# Altium integrated library Linear Technology Power Management Switching Regulator LT1074-LT8705.IntLib: 2252 symbols (part 76 of 148)
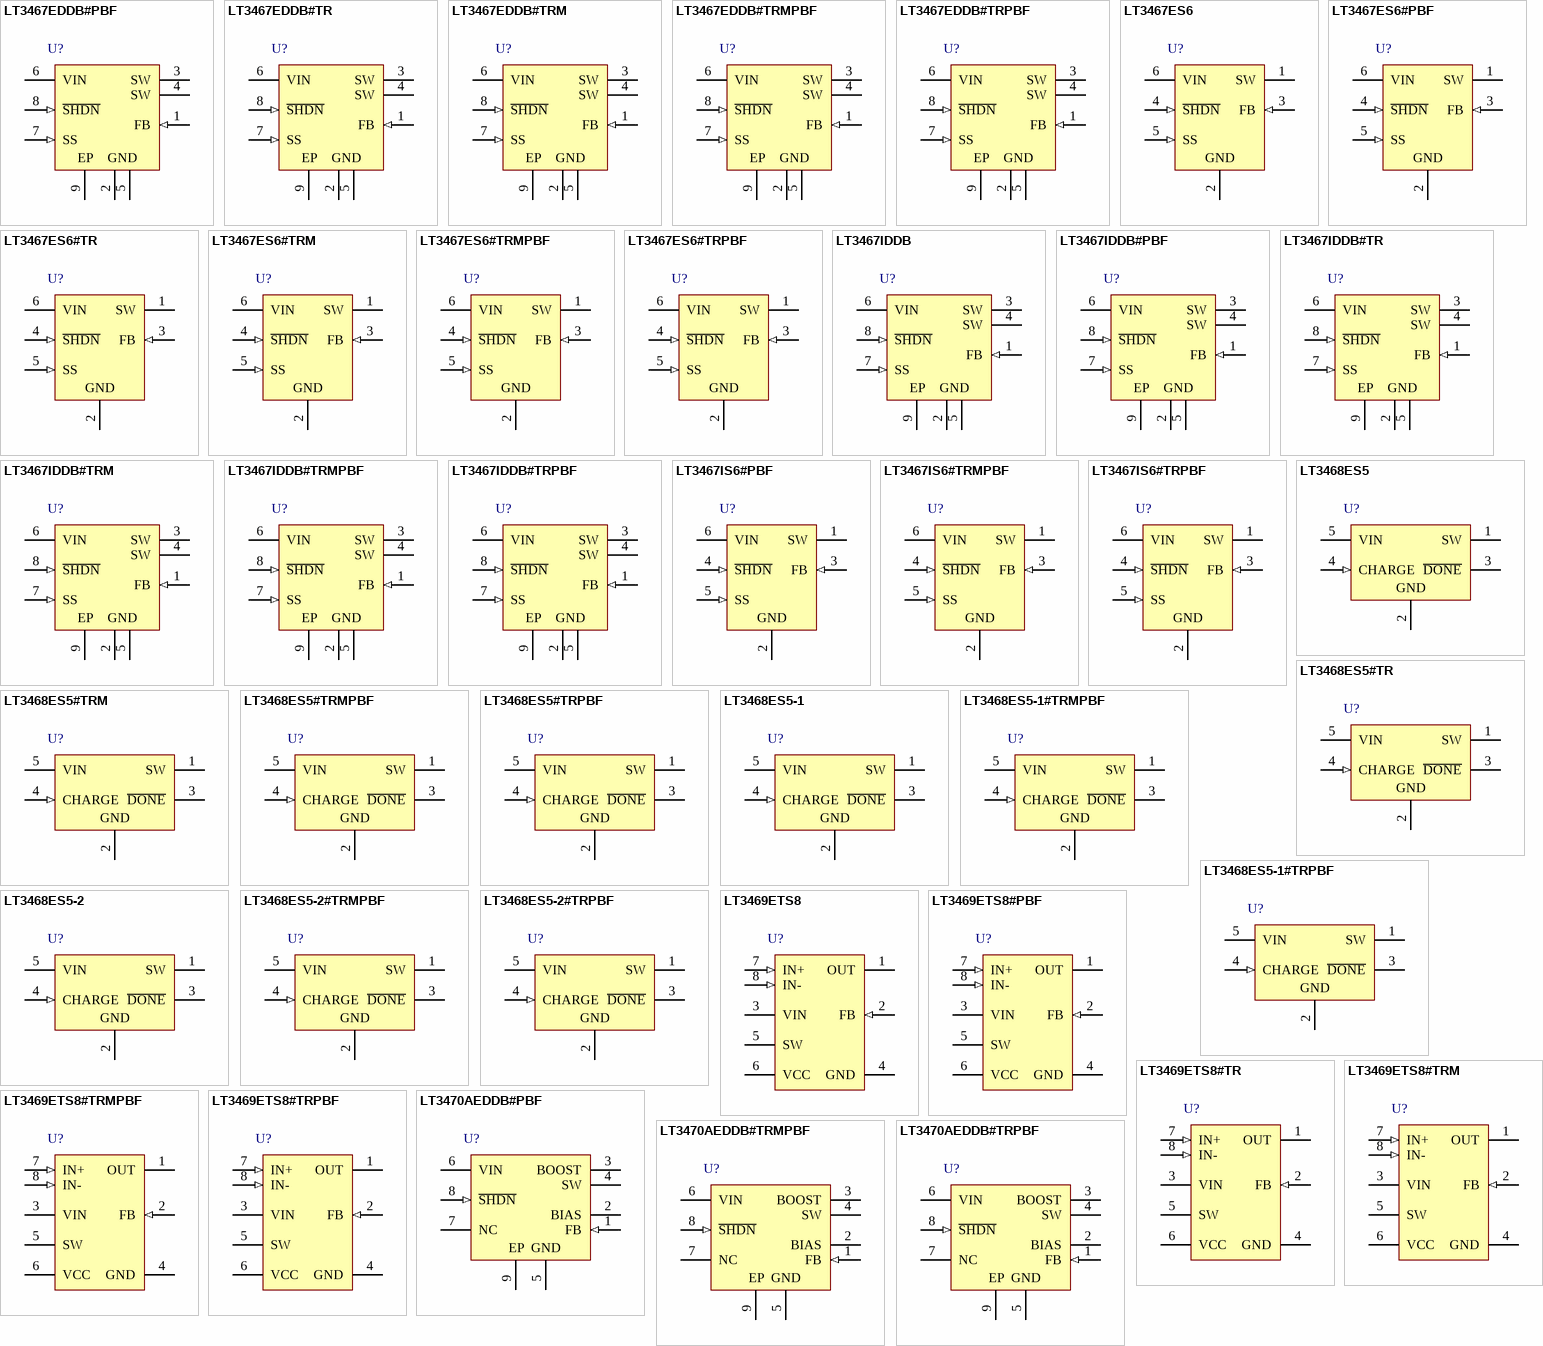
[diagram p146: symbols LT3467EDDB#PBF to LT3470AEDDB#TRPBF]

## LT3470AEDDB#TRPBF
designator U?
Micropower Buck Regulator with Integrated Boost and Catch Diode, 8-pin SON (DDB-8), -40 to 85 degC, Pb-Free, Tape and Reel; Manufacturer: Linear Technology; PartNumber: LT3470AEDDB#TRPBF; Number of Outputs: 1; DatasheetVersion: Rev. B; PackageVersion: Rev. B, 06/2010; PackageReference: DDB-8; PackageDescription: 8-Pin Plastic DFN, Body 3 x 2 mm, Pitch 0.5 mm; Supplier 1: Digi-Key; Supplier Part Number 1: LT3470AEDDB#TRPBF-ND; Supplier 2: Newark; Supplier Part Number 2: 15N3659; Packing: Tape and Reel; RoHS: TRUE; Mounting Technology: Surface Mount; Code_JEDEC: MO-229; ComponentLink1Description: Manufacturer URL; ComponentLink1URL: http://www.linear.com/; ComponentLink2Description: Datasheet; ComponentLink2URL: http://cds.linear.com/docs/en/datasheet/3470afb.pdf; ComponentLink3Description: Package Specification; ComponentLink3URL: http://cds.linear.com/docs/en/packaging/DFN_8_05-08-1702.pdf
footprint LT-DDB-8_V (SON, 8-Leads, Body 3x2mm, Pitch 0.5mm, Thermal Pad 2.2x0.61mm)
pins: 1 FB (in) "The LT3470X regulates its feedback pin to 1.25V. Connect the feedback resistor divider tap to this pin. Set the output voltage according to VOUT = 1.25V (1 + R1/R2) or R1 = R2 (VOUT/1.25 - 1).", 2 BIAS (power) "The BIAS pin connects to the internal boost Schottky diode and to the internal regulator. Tie to VOUT when VOUT > 2.5V or to VIN otherwise. When VBIAS > 3V the BIAS pin will supply current to the internal regulator.", 3 BOOST "The BOOST pin is used to provide a drive voltage, which is higher than the input voltage, to the internal bipolar NPN power switch.", 4 SW (power) "The SW pin is the output of the internal power switch. Connect this pin to the inductor, catch diode and boost capacitor.", 5 GND (power) "Tie the GND pin to a local ground plane below the LT3470X and the circuit components. Return the feedback divider to this pin.", 6 VIN (power) "The VIN pin supplies current to the LT3470X’s internal regulator and to the internal power switch. This pin must be locally bypassed.", 7 NC "This pin can be left floating, connected to VIN, or tied to GND.", 8 ~{SHDN} (in) "The S\H\D\N\ pin is used to put the LT3470X in shutdown mode. Tie to ground to shut down the LT3470A. Apply 2V or more for normal operation. If the shutdown feature is not used, tie this pin to the VIN pin.", 9 EP (power) "Ground. Must be soldered to PCB."

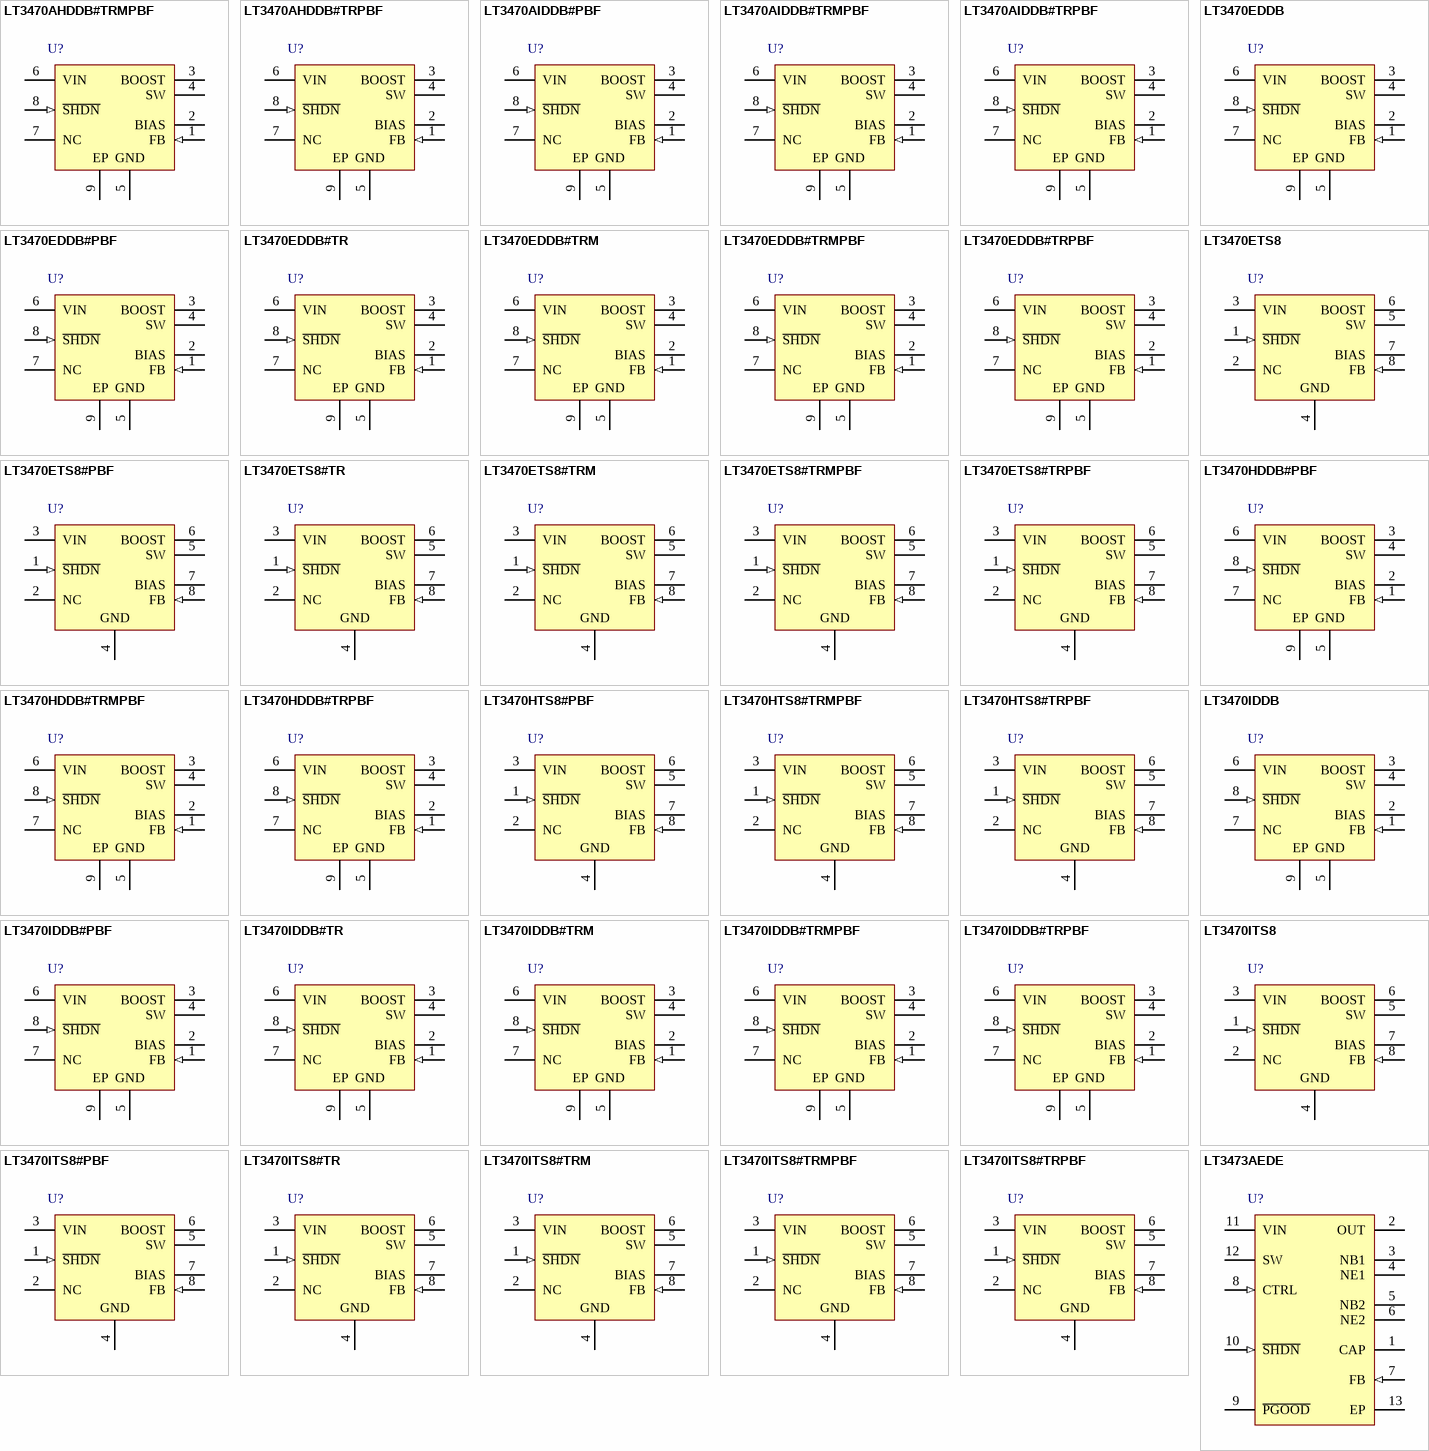
[diagram p38: symbols LT3470AHDDB#TRMPBF to LT3473AEDE]

## LT3470AHDDB#TRMPBF
designator U?
Micropower Buck Regulator with Integrated Boost and Catch Diode, 8-pin SON (DDB-8), -40 to 150 degC, Pb-Free, Mini Tape and Reel; Manufacturer: Linear Technology; PartNumber: LT3470AHDDB#TRMPBF; Number of Outputs: 1; DatasheetVersion: Rev. B; PackageVersion: Rev. B, 06/2010; PackageReference: DDB-8; PackageDescription: 8-Pin Plastic DFN, Body 3 x 2 mm, Pitch 0.5 mm; Supplier 1: Digi-Key; Supplier Part Number 1: LT3470AHDDB#TRMPBF-ND; Packing: Mini Tape and Reel; RoHS: TRUE; Mounting Technology: Surface Mount; Code_JEDEC: MO-229; ComponentLink1Description: Manufacturer URL; ComponentLink1URL: http://www.linear.com/; ComponentLink2Description: Datasheet; ComponentLink2URL: http://cds.linear.com/docs/en/datasheet/3470afb.pdf; ComponentLink3Description: Package Specification; ComponentLink3URL: http://cds.linear.com/docs/en/packaging/DFN_8_05-08-1702.pdf
footprint LT-DDB-8_V (SON, 8-Leads, Body 3x2mm, Pitch 0.5mm, Thermal Pad 2.2x0.61mm)
pins: 1 FB (in) "The LT3470X regulates its feedback pin to 1.25V. Connect the feedback resistor divider tap to this pin. Set the output voltage according to VOUT = 1.25V (1 + R1/R2) or R1 = R2 (VOUT/1.25 - 1).", 2 BIAS (power) "The BIAS pin connects to the internal boost Schottky diode and to the internal regulator. Tie to VOUT when VOUT > 2.5V or to VIN otherwise. When VBIAS > 3V the BIAS pin will supply current to the internal regulator.", 3 BOOST "The BOOST pin is used to provide a drive voltage, which is higher than the input voltage, to the internal bipolar NPN power switch.", 4 SW (power) "The SW pin is the output of the internal power switch. Connect this pin to the inductor, catch diode and boost capacitor.", 5 GND (power) "Tie the GND pin to a local ground plane below the LT3470X and the circuit components. Return the feedback divider to this pin.", 6 VIN (power) "The VIN pin supplies current to the LT3470X’s internal regulator and to the internal power switch. This pin must be locally bypassed.", 7 NC "This pin can be left floating, connected to VIN, or tied to GND.", 8 ~{SHDN} (in) "The S\H\D\N\ pin is used to put the LT3470X in shutdown mode. Tie to ground to shut down the LT3470A. Apply 2V or more for normal operation. If the shutdown feature is not used, tie this pin to the VIN pin.", 9 EP (power) "Ground. Must be soldered to PCB."

## LT3470AHDDB#TRPBF
designator U?
Micropower Buck Regulator with Integrated Boost and Catch Diode, 8-pin SON (DDB-8), -40 to 150 degC, Pb-Free, Tape and Reel; Manufacturer: Linear Technology; PartNumber: LT3470AHDDB#TRPBF; Number of Outputs: 1; DatasheetVersion: Rev. B; PackageVersion: Rev. B, 06/2010; PackageReference: DDB-8; PackageDescription: 8-Pin Plastic DFN, Body 3 x 2 mm, Pitch 0.5 mm; Supplier 1: Digi-Key; Supplier Part Number 1: LT3470AHDDB#TRPBF-ND; Packing: Tape and Reel; RoHS: TRUE; Mounting Technology: Surface Mount; Code_JEDEC: MO-229; ComponentLink1Description: Manufacturer URL; ComponentLink1URL: http://www.linear.com/; ComponentLink2Description: Datasheet; ComponentLink2URL: http://cds.linear.com/docs/en/datasheet/3470afb.pdf; ComponentLink3Description: Package Specification; ComponentLink3URL: http://cds.linear.com/docs/en/packaging/DFN_8_05-08-1702.pdf
footprint LT-DDB-8_V (SON, 8-Leads, Body 3x2mm, Pitch 0.5mm, Thermal Pad 2.2x0.61mm)
pins: 1 FB (in) "The LT3470X regulates its feedback pin to 1.25V. Connect the feedback resistor divider tap to this pin. Set the output voltage according to VOUT = 1.25V (1 + R1/R2) or R1 = R2 (VOUT/1.25 - 1).", 2 BIAS (power) "The BIAS pin connects to the internal boost Schottky diode and to the internal regulator. Tie to VOUT when VOUT > 2.5V or to VIN otherwise. When VBIAS > 3V the BIAS pin will supply current to the internal regulator.", 3 BOOST "The BOOST pin is used to provide a drive voltage, which is higher than the input voltage, to the internal bipolar NPN power switch.", 4 SW (power) "The SW pin is the output of the internal power switch. Connect this pin to the inductor, catch diode and boost capacitor.", 5 GND (power) "Tie the GND pin to a local ground plane below the LT3470X and the circuit components. Return the feedback divider to this pin.", 6 VIN (power) "The VIN pin supplies current to the LT3470X’s internal regulator and to the internal power switch. This pin must be locally bypassed.", 7 NC "This pin can be left floating, connected to VIN, or tied to GND.", 8 ~{SHDN} (in) "The S\H\D\N\ pin is used to put the LT3470X in shutdown mode. Tie to ground to shut down the LT3470A. Apply 2V or more for normal operation. If the shutdown feature is not used, tie this pin to the VIN pin.", 9 EP (power) "Ground. Must be soldered to PCB."

## LT3470AIDDB#PBF
designator U?
Micropower Buck Regulator with Integrated Boost and Catch Diode, 8-pin SON (DDB-8), -40 to 125 degC, Pb-Free; Manufacturer: Linear Technology; PartNumber: LT3470AIDDB#PBF; Number of Outputs: 1; DatasheetVersion: Rev. B; PackageVersion: Rev. B, 06/2010; PackageReference: DDB-8; PackageDescription: 8-Pin Plastic DFN, Body 3 x 2 mm, Pitch 0.5 mm; Supplier 1: Newark; Supplier Part Number 1: 78T4003; RoHS: TRUE; Mounting Technology: Surface Mount; Code_JEDEC: MO-229; ComponentLink1Description: Manufacturer URL; ComponentLink1URL: http://www.linear.com/; ComponentLink2Description: Datasheet; ComponentLink2URL: http://cds.linear.com/docs/en/datasheet/3470afb.pdf; ComponentLink3Description: Package Specification; ComponentLink3URL: http://cds.linear.com/docs/en/packaging/DFN_8_05-08-1702.pdf
footprint LT-DDB-8_V (SON, 8-Leads, Body 3x2mm, Pitch 0.5mm, Thermal Pad 2.2x0.61mm)
pins: 1 FB (in) "The LT3470X regulates its feedback pin to 1.25V. Connect the feedback resistor divider tap to this pin. Set the output voltage according to VOUT = 1.25V (1 + R1/R2) or R1 = R2 (VOUT/1.25 - 1).", 2 BIAS (power) "The BIAS pin connects to the internal boost Schottky diode and to the internal regulator. Tie to VOUT when VOUT > 2.5V or to VIN otherwise. When VBIAS > 3V the BIAS pin will supply current to the internal regulator.", 3 BOOST "The BOOST pin is used to provide a drive voltage, which is higher than the input voltage, to the internal bipolar NPN power switch.", 4 SW (power) "The SW pin is the output of the internal power switch. Connect this pin to the inductor, catch diode and boost capacitor.", 5 GND (power) "Tie the GND pin to a local ground plane below the LT3470X and the circuit components. Return the feedback divider to this pin.", 6 VIN (power) "The VIN pin supplies current to the LT3470X’s internal regulator and to the internal power switch. This pin must be locally bypassed.", 7 NC "This pin can be left floating, connected to VIN, or tied to GND.", 8 ~{SHDN} (in) "The S\H\D\N\ pin is used to put the LT3470X in shutdown mode. Tie to ground to shut down the LT3470A. Apply 2V or more for normal operation. If the shutdown feature is not used, tie this pin to the VIN pin.", 9 EP (power) "Ground. Must be soldered to PCB."

## LT3470AIDDB#TRMPBF
designator U?
Micropower Buck Regulator with Integrated Boost and Catch Diode, 8-pin SON (DDB-8), -40 to 125 degC, Pb-Free, Mini Tape and Reel; Manufacturer: Linear Technology; PartNumber: LT3470AIDDB#TRMPBF; Number of Outputs: 1; DatasheetVersion: Rev. B; PackageVersion: Rev. B, 06/2010; PackageReference: DDB-8; PackageDescription: 8-Pin Plastic DFN, Body 3 x 2 mm, Pitch 0.5 mm; Supplier 1: Digi-Key; Supplier Part Number 1: LT3470AIDDB#TRMPBFTR-ND; Supplier 2: Digi-Key; Supplier Part Number 2: LT3470AIDDB#TRMPBFCT-ND; Supplier 3: Digi-Key; Supplier Part Number 3: LT3470AIDDB#TRMPBFDKR-ND; Supplier 4: Newark; Supplier Part Number 4: 15N3660; Packing: Mini Tape and Reel; RoHS: TRUE; Mounting Technology: Surface Mount; Code_JEDEC: MO-229; ComponentLink1Description: Manufacturer URL; ComponentLink1URL: http://www.linear.com/; ComponentLink2Description: Datasheet; ComponentLink2URL: http://cds.linear.com/docs/en/datasheet/3470afb.pdf; ComponentLink3Description: Package Specification; ComponentLink3URL: http://cds.linear.com/docs/en/packaging/DFN_8_05-08-1702.pdf
footprint LT-DDB-8_V (SON, 8-Leads, Body 3x2mm, Pitch 0.5mm, Thermal Pad 2.2x0.61mm)
pins: 1 FB (in) "The LT3470X regulates its feedback pin to 1.25V. Connect the feedback resistor divider tap to this pin. Set the output voltage according to VOUT = 1.25V (1 + R1/R2) or R1 = R2 (VOUT/1.25 - 1).", 2 BIAS (power) "The BIAS pin connects to the internal boost Schottky diode and to the internal regulator. Tie to VOUT when VOUT > 2.5V or to VIN otherwise. When VBIAS > 3V the BIAS pin will supply current to the internal regulator.", 3 BOOST "The BOOST pin is used to provide a drive voltage, which is higher than the input voltage, to the internal bipolar NPN power switch.", 4 SW (power) "The SW pin is the output of the internal power switch. Connect this pin to the inductor, catch diode and boost capacitor.", 5 GND (power) "Tie the GND pin to a local ground plane below the LT3470X and the circuit components. Return the feedback divider to this pin.", 6 VIN (power) "The VIN pin supplies current to the LT3470X’s internal regulator and to the internal power switch. This pin must be locally bypassed.", 7 NC "This pin can be left floating, connected to VIN, or tied to GND.", 8 ~{SHDN} (in) "The S\H\D\N\ pin is used to put the LT3470X in shutdown mode. Tie to ground to shut down the LT3470A. Apply 2V or more for normal operation. If the shutdown feature is not used, tie this pin to the VIN pin.", 9 EP (power) "Ground. Must be soldered to PCB."

## LT3470AIDDB#TRPBF
designator U?
Micropower Buck Regulator with Integrated Boost and Catch Diode, 8-pin SON (DDB-8), -40 to 125 degC, Pb-Free, Tape and Reel; Manufacturer: Linear Technology; PartNumber: LT3470AIDDB#TRPBF; Number of Outputs: 1; DatasheetVersion: Rev. B; PackageVersion: Rev. B, 06/2010; PackageReference: DDB-8; PackageDescription: 8-Pin Plastic DFN, Body 3 x 2 mm, Pitch 0.5 mm; Supplier 1: Digi-Key; Supplier Part Number 1: LT3470AIDDB#TRPBF-ND; Supplier 2: Newark; Supplier Part Number 2: 15N3661; Packing: Tape and Reel; RoHS: TRUE; Mounting Technology: Surface Mount; Code_JEDEC: MO-229; ComponentLink1Description: Manufacturer URL; ComponentLink1URL: http://www.linear.com/; ComponentLink2Description: Datasheet; ComponentLink2URL: http://cds.linear.com/docs/en/datasheet/3470afb.pdf; ComponentLink3Description: Package Specification; ComponentLink3URL: http://cds.linear.com/docs/en/packaging/DFN_8_05-08-1702.pdf
footprint LT-DDB-8_V (SON, 8-Leads, Body 3x2mm, Pitch 0.5mm, Thermal Pad 2.2x0.61mm)
pins: 1 FB (in) "The LT3470X regulates its feedback pin to 1.25V. Connect the feedback resistor divider tap to this pin. Set the output voltage according to VOUT = 1.25V (1 + R1/R2) or R1 = R2 (VOUT/1.25 - 1).", 2 BIAS (power) "The BIAS pin connects to the internal boost Schottky diode and to the internal regulator. Tie to VOUT when VOUT > 2.5V or to VIN otherwise. When VBIAS > 3V the BIAS pin will supply current to the internal regulator.", 3 BOOST "The BOOST pin is used to provide a drive voltage, which is higher than the input voltage, to the internal bipolar NPN power switch.", 4 SW (power) "The SW pin is the output of the internal power switch. Connect this pin to the inductor, catch diode and boost capacitor.", 5 GND (power) "Tie the GND pin to a local ground plane below the LT3470X and the circuit components. Return the feedback divider to this pin.", 6 VIN (power) "The VIN pin supplies current to the LT3470X’s internal regulator and to the internal power switch. This pin must be locally bypassed.", 7 NC "This pin can be left floating, connected to VIN, or tied to GND.", 8 ~{SHDN} (in) "The S\H\D\N\ pin is used to put the LT3470X in shutdown mode. Tie to ground to shut down the LT3470A. Apply 2V or more for normal operation. If the shutdown feature is not used, tie this pin to the VIN pin.", 9 EP (power) "Ground. Must be soldered to PCB."

## LT3470EDDB
designator U?
Micropower Buck Regulator with Integrated Boost and Catch Diode, 8-pin SON (DDB-8), -40 to 85 degC; Manufacturer: Linear Technology; PartNumber: LT3470EDDB; Number of Outputs: 1; DatasheetVersion: Rev. D; PackageVersion: Rev. B, 06/2010; PackageReference: DDB-8; PackageDescription: 8-Pin Plastic DFN, Body 3 x 2 mm, Pitch 0.5 mm; RoHS: FALSE; Mounting Technology: Surface Mount; Code_JEDEC: MO-229; ComponentLink1Description: Manufacturer URL; ComponentLink1URL: http://www.linear.com/; ComponentLink2Description: Datasheet; ComponentLink2URL: http://cds.linear.com/docs/en/datasheet/3470fd.pdf; ComponentLink3Description: Package Specification; ComponentLink3URL: http://cds.linear.com/docs/en/packaging/DFN_8_05-08-1702.pdf
footprint LT-DDB-8_V (SON, 8-Leads, Body 3x2mm, Pitch 0.5mm, Thermal Pad 2.2x0.61mm)
pins: 1 FB (in) "The LT3470X regulates its feedback pin to 1.25V. Connect the feedback resistor divider tap to this pin. Set the output voltage according to VOUT = 1.25V (1 + R1/R2) or R1 = R2 (VOUT/1.25 - 1).", 2 BIAS (power) "The BIAS pin connects to the internal boost Schottky diode and to the internal regulator. Tie to VOUT when VOUT > 2.5V or to VIN otherwise. When VBIAS > 3V the BIAS pin will supply current to the internal regulator.", 3 BOOST "The BOOST pin is used to provide a drive voltage, which is higher than the input voltage, to the internal bipolar NPN power switch.", 4 SW (power) "The SW pin is the output of the internal power switch. Connect this pin to the inductor, catch diode and boost capacitor.", 5 GND (power) "Tie the GND pin to a local ground plane below the LT3470X and the circuit components. Return the feedback divider to this pin.", 6 VIN (power) "The VIN pin supplies current to the LT3470X’s internal regulator and to the internal power switch. This pin must be locally bypassed.", 7 NC "This pin can be left floating, connected to VIN, or tied to GND.", 8 ~{SHDN} (in) "The S\H\D\N\ pin is used to put the LT3470X in shutdown mode. Tie to ground to shut down the LT3470A. Apply 2V or more for normal operation. If the shutdown feature is not used, tie this pin to the VIN pin.", 9 EP (power) "Ground. Must be soldered to PCB."

## LT3470EDDB#PBF
designator U?
Micropower Buck Regulator with Integrated Boost and Catch Diode, 8-pin SON (DDB-8), -40 to 85 degC, Pb-Free; Manufacturer: Linear Technology; PartNumber: LT3470EDDB#PBF; Number of Outputs: 1; DatasheetVersion: Rev. D; PackageVersion: Rev. B, 06/2010; PackageReference: DDB-8; PackageDescription: 8-Pin Plastic DFN, Body 3 x 2 mm, Pitch 0.5 mm; Supplier 1: Farnell; Supplier Part Number 1: 2294903; Supplier 2: Newark; Supplier Part Number 2: 78T4004; RoHS: TRUE; Mounting Technology: Surface Mount; Code_JEDEC: MO-229; ComponentLink1Description: Manufacturer URL; ComponentLink1URL: http://www.linear.com/; ComponentLink2Description: Datasheet; ComponentLink2URL: http://cds.linear.com/docs/en/datasheet/3470fd.pdf; ComponentLink3Description: Package Specification; ComponentLink3URL: http://cds.linear.com/docs/en/packaging/DFN_8_05-08-1702.pdf
footprint LT-DDB-8_V (SON, 8-Leads, Body 3x2mm, Pitch 0.5mm, Thermal Pad 2.2x0.61mm)
pins: 1 FB (in) "The LT3470X regulates its feedback pin to 1.25V. Connect the feedback resistor divider tap to this pin. Set the output voltage according to VOUT = 1.25V (1 + R1/R2) or R1 = R2 (VOUT/1.25 - 1).", 2 BIAS (power) "The BIAS pin connects to the internal boost Schottky diode and to the internal regulator. Tie to VOUT when VOUT > 2.5V or to VIN otherwise. When VBIAS > 3V the BIAS pin will supply current to the internal regulator.", 3 BOOST "The BOOST pin is used to provide a drive voltage, which is higher than the input voltage, to the internal bipolar NPN power switch.", 4 SW (power) "The SW pin is the output of the internal power switch. Connect this pin to the inductor, catch diode and boost capacitor.", 5 GND (power) "Tie the GND pin to a local ground plane below the LT3470X and the circuit components. Return the feedback divider to this pin.", 6 VIN (power) "The VIN pin supplies current to the LT3470X’s internal regulator and to the internal power switch. This pin must be locally bypassed.", 7 NC "This pin can be left floating, connected to VIN, or tied to GND.", 8 ~{SHDN} (in) "The S\H\D\N\ pin is used to put the LT3470X in shutdown mode. Tie to ground to shut down the LT3470A. Apply 2V or more for normal operation. If the shutdown feature is not used, tie this pin to the VIN pin.", 9 EP (power) "Ground. Must be soldered to PCB."

## LT3470EDDB#TR
designator U?
Micropower Buck Regulator with Integrated Boost and Catch Diode, 8-pin SON (DDB-8), -40 to 85 degC, Tape and Reel; Manufacturer: Linear Technology; PartNumber: LT3470EDDB#TR; Number of Outputs: 1; DatasheetVersion: Rev. D; PackageVersion: Rev. B, 06/2010; PackageReference: DDB-8; PackageDescription: 8-Pin Plastic DFN, Body 3 x 2 mm, Pitch 0.5 mm; Packing: Tape and Reel; RoHS: FALSE; Mounting Technology: Surface Mount; Code_JEDEC: MO-229; ComponentLink1Description: Manufacturer URL; ComponentLink1URL: http://www.linear.com/; ComponentLink2Description: Datasheet; ComponentLink2URL: http://cds.linear.com/docs/en/datasheet/3470fd.pdf; ComponentLink3Description: Package Specification; ComponentLink3URL: http://cds.linear.com/docs/en/packaging/DFN_8_05-08-1702.pdf
footprint LT-DDB-8_V (SON, 8-Leads, Body 3x2mm, Pitch 0.5mm, Thermal Pad 2.2x0.61mm)
pins: 1 FB (in) "The LT3470X regulates its feedback pin to 1.25V. Connect the feedback resistor divider tap to this pin. Set the output voltage according to VOUT = 1.25V (1 + R1/R2) or R1 = R2 (VOUT/1.25 - 1).", 2 BIAS (power) "The BIAS pin connects to the internal boost Schottky diode and to the internal regulator. Tie to VOUT when VOUT > 2.5V or to VIN otherwise. When VBIAS > 3V the BIAS pin will supply current to the internal regulator.", 3 BOOST "The BOOST pin is used to provide a drive voltage, which is higher than the input voltage, to the internal bipolar NPN power switch.", 4 SW (power) "The SW pin is the output of the internal power switch. Connect this pin to the inductor, catch diode and boost capacitor.", 5 GND (power) "Tie the GND pin to a local ground plane below the LT3470X and the circuit components. Return the feedback divider to this pin.", 6 VIN (power) "The VIN pin supplies current to the LT3470X’s internal regulator and to the internal power switch. This pin must be locally bypassed.", 7 NC "This pin can be left floating, connected to VIN, or tied to GND.", 8 ~{SHDN} (in) "The S\H\D\N\ pin is used to put the LT3470X in shutdown mode. Tie to ground to shut down the LT3470A. Apply 2V or more for normal operation. If the shutdown feature is not used, tie this pin to the VIN pin.", 9 EP (power) "Ground. Must be soldered to PCB."

## LT3470EDDB#TRM
designator U?
Micropower Buck Regulator with Integrated Boost and Catch Diode, 8-pin SON (DDB-8), -40 to 85 degC, Mini Tape and Reel; Manufacturer: Linear Technology; PartNumber: LT3470EDDB#TRM; Number of Outputs: 1; DatasheetVersion: Rev. D; PackageVersion: Rev. B, 06/2010; PackageReference: DDB-8; PackageDescription: 8-Pin Plastic DFN, Body 3 x 2 mm, Pitch 0.5 mm; Packing: Mini Tape and Reel; RoHS: FALSE; Mounting Technology: Surface Mount; Code_JEDEC: MO-229; ComponentLink1Description: Manufacturer URL; ComponentLink1URL: http://www.linear.com/; ComponentLink2Description: Datasheet; ComponentLink2URL: http://cds.linear.com/docs/en/datasheet/3470fd.pdf; ComponentLink3Description: Package Specification; ComponentLink3URL: http://cds.linear.com/docs/en/packaging/DFN_8_05-08-1702.pdf
footprint LT-DDB-8_V (SON, 8-Leads, Body 3x2mm, Pitch 0.5mm, Thermal Pad 2.2x0.61mm)
pins: 1 FB (in) "The LT3470X regulates its feedback pin to 1.25V. Connect the feedback resistor divider tap to this pin. Set the output voltage according to VOUT = 1.25V (1 + R1/R2) or R1 = R2 (VOUT/1.25 - 1).", 2 BIAS (power) "The BIAS pin connects to the internal boost Schottky diode and to the internal regulator. Tie to VOUT when VOUT > 2.5V or to VIN otherwise. When VBIAS > 3V the BIAS pin will supply current to the internal regulator.", 3 BOOST "The BOOST pin is used to provide a drive voltage, which is higher than the input voltage, to the internal bipolar NPN power switch.", 4 SW (power) "The SW pin is the output of the internal power switch. Connect this pin to the inductor, catch diode and boost capacitor.", 5 GND (power) "Tie the GND pin to a local ground plane below the LT3470X and the circuit components. Return the feedback divider to this pin.", 6 VIN (power) "The VIN pin supplies current to the LT3470X’s internal regulator and to the internal power switch. This pin must be locally bypassed.", 7 NC "This pin can be left floating, connected to VIN, or tied to GND.", 8 ~{SHDN} (in) "The S\H\D\N\ pin is used to put the LT3470X in shutdown mode. Tie to ground to shut down the LT3470A. Apply 2V or more for normal operation. If the shutdown feature is not used, tie this pin to the VIN pin.", 9 EP (power) "Ground. Must be soldered to PCB."

## LT3470EDDB#TRMPBF
designator U?
Micropower Buck Regulator with Integrated Boost and Catch Diode, 8-pin SON (DDB-8), -40 to 85 degC, Pb-Free, Mini Tape and Reel; Manufacturer: Linear Technology; PartNumber: LT3470EDDB#TRMPBF; Number of Outputs: 1; DatasheetVersion: Rev. D; PackageVersion: Rev. B, 06/2010; PackageReference: DDB-8; PackageDescription: 8-Pin Plastic DFN, Body 3 x 2 mm, Pitch 0.5 mm; Supplier 1: Digi-Key; Supplier Part Number 1: LT3470EDDB#TRMPBFTR-ND; Supplier 2: Digi-Key; Supplier Part Number 2: LT3470EDDB#TRMPBFCT-ND; Supplier 3: Digi-Key; Supplier Part Number 3: LT3470EDDB#TRMPBFDKR-ND; Packing: Mini Tape and Reel; RoHS: TRUE; Mounting Technology: Surface Mount; Code_JEDEC: MO-229; ComponentLink1Description: Manufacturer URL; ComponentLink1URL: http://www.linear.com/; ComponentLink2Description: Datasheet; ComponentLink2URL: http://cds.linear.com/docs/en/datasheet/3470fd.pdf; ComponentLink3Description: Package Specification; ComponentLink3URL: http://cds.linear.com/docs/en/packaging/DFN_8_05-08-1702.pdf
footprint LT-DDB-8_V (SON, 8-Leads, Body 3x2mm, Pitch 0.5mm, Thermal Pad 2.2x0.61mm)
pins: 1 FB (in) "The LT3470X regulates its feedback pin to 1.25V. Connect the feedback resistor divider tap to this pin. Set the output voltage according to VOUT = 1.25V (1 + R1/R2) or R1 = R2 (VOUT/1.25 - 1).", 2 BIAS (power) "The BIAS pin connects to the internal boost Schottky diode and to the internal regulator. Tie to VOUT when VOUT > 2.5V or to VIN otherwise. When VBIAS > 3V the BIAS pin will supply current to the internal regulator.", 3 BOOST "The BOOST pin is used to provide a drive voltage, which is higher than the input voltage, to the internal bipolar NPN power switch.", 4 SW (power) "The SW pin is the output of the internal power switch. Connect this pin to the inductor, catch diode and boost capacitor.", 5 GND (power) "Tie the GND pin to a local ground plane below the LT3470X and the circuit components. Return the feedback divider to this pin.", 6 VIN (power) "The VIN pin supplies current to the LT3470X’s internal regulator and to the internal power switch. This pin must be locally bypassed.", 7 NC "This pin can be left floating, connected to VIN, or tied to GND.", 8 ~{SHDN} (in) "The S\H\D\N\ pin is used to put the LT3470X in shutdown mode. Tie to ground to shut down the LT3470A. Apply 2V or more for normal operation. If the shutdown feature is not used, tie this pin to the VIN pin.", 9 EP (power) "Ground. Must be soldered to PCB."

## LT3470EDDB#TRPBF
designator U?
Micropower Buck Regulator with Integrated Boost and Catch Diode, 8-pin SON (DDB-8), -40 to 85 degC, Pb-Free, Tape and Reel; Manufacturer: Linear Technology; PartNumber: LT3470EDDB#TRPBF; Number of Outputs: 1; DatasheetVersion: Rev. D; PackageVersion: Rev. B, 06/2010; PackageReference: DDB-8; PackageDescription: 8-Pin Plastic DFN, Body 3 x 2 mm, Pitch 0.5 mm; Supplier 1: Digi-Key; Supplier Part Number 1: LT3470EDDB#TRPBF-ND; Packing: Tape and Reel; RoHS: TRUE; Mounting Technology: Surface Mount; Code_JEDEC: MO-229; ComponentLink1Description: Manufacturer URL; ComponentLink1URL: http://www.linear.com/; ComponentLink2Description: Datasheet; ComponentLink2URL: http://cds.linear.com/docs/en/datasheet/3470fd.pdf; ComponentLink3Description: Package Specification; ComponentLink3URL: http://cds.linear.com/docs/en/packaging/DFN_8_05-08-1702.pdf
footprint LT-DDB-8_V (SON, 8-Leads, Body 3x2mm, Pitch 0.5mm, Thermal Pad 2.2x0.61mm)
pins: 1 FB (in) "The LT3470X regulates its feedback pin to 1.25V. Connect the feedback resistor divider tap to this pin. Set the output voltage according to VOUT = 1.25V (1 + R1/R2) or R1 = R2 (VOUT/1.25 - 1).", 2 BIAS (power) "The BIAS pin connects to the internal boost Schottky diode and to the internal regulator. Tie to VOUT when VOUT > 2.5V or to VIN otherwise. When VBIAS > 3V the BIAS pin will supply current to the internal regulator.", 3 BOOST "The BOOST pin is used to provide a drive voltage, which is higher than the input voltage, to the internal bipolar NPN power switch.", 4 SW (power) "The SW pin is the output of the internal power switch. Connect this pin to the inductor, catch diode and boost capacitor.", 5 GND (power) "Tie the GND pin to a local ground plane below the LT3470X and the circuit components. Return the feedback divider to this pin.", 6 VIN (power) "The VIN pin supplies current to the LT3470X’s internal regulator and to the internal power switch. This pin must be locally bypassed.", 7 NC "This pin can be left floating, connected to VIN, or tied to GND.", 8 ~{SHDN} (in) "The S\H\D\N\ pin is used to put the LT3470X in shutdown mode. Tie to ground to shut down the LT3470A. Apply 2V or more for normal operation. If the shutdown feature is not used, tie this pin to the VIN pin.", 9 EP (power) "Ground. Must be soldered to PCB."

## LT3470ETS8
designator U?
Micropower Buck Regulator with Integrated Boost and Catch Diode, 8-pin SOT23 (TS8-8), -40 to 85 degC; Manufacturer: Linear Technology; PartNumber: LT3470ETS8; Number of Outputs: 1; DatasheetVersion: Rev. D; PackageVersion: Rev. A, 08/2010; PackageReference: TS8-8; PackageDescription: 8-Pin Plastic TSOT-23, Body 2.9 x 1.63 mm, Pitch 0.65 mm; RoHS: FALSE; Mounting Technology: Surface Mount; Code_JEDEC: MO-193; ComponentLink1Description: Manufacturer URL; ComponentLink1URL: http://www.linear.com/; ComponentLink2Description: Datasheet; ComponentLink2URL: http://cds.linear.com/docs/en/datasheet/3470fd.pdf; ComponentLink3Description: Package Specification; ComponentLink3URL: http://cds.linear.com/docs/en/packaging/SOT_8_05-08-1637.pdf
footprint LT-TS8-8-TSOT-23_V (SOT23, 8-Leads, Body 2.9x1.75mm, Pitch 0.65mm)
pins: 1 ~{SHDN} (in) "The S\H\D\N\ pin is used to put the LT3470 in shutdown mode. Tie to ground to shut down the LT3470A. Apply 2V or more for normal operation. If the shutdown feature is not used, tie this pin to the VIN pin.", 2 NC "This pin can be left floating, connected to VIN, or tied to GND.", 3 VIN (power) "The VIN pin supplies current to the LT3470’s internal regulator and to the internal power switch. This pin must be locally bypassed.", 4 GND (power) "Tie the GND pin to a local ground plane below the LT3470A and the circuit components. Return the feedback divider to this pin.", 5 SW (power) "The SW pin is the output of the internal power switch. Connect this pin to the inductor, catch diode and boost capacitor.", 6 BOOST "The BOOST pin is used to provide a drive voltage, which is higher than the input voltage, to the internal bipolar NPN power switch.", 7 BIAS (power) "The BIAS pin connects to the internal boost Schottky diode and to the internal regulator. Tie to VOUT when VOUT > 2.5V or to VIN otherwise. When VBIAS > 3V the BIAS pin will supply current to the internal regulator.", 8 FB (in) "The LT3470 regulates its feedback pin to 1.25V. Connect the feedback resistor divider tap to this pin. Set the output voltage according to VOUT = 1.25V (1 + R1/R2) or R1 = R2 (VOUT/1.25 - 1)."

## LT3470ETS8#PBF
designator U?
Micropower Buck Regulator with Integrated Boost and Catch Diode, 8-pin SOT23 (TS8-8), -40 to 85 degC, Pb-Free; Manufacturer: Linear Technology; PartNumber: LT3470ETS8#PBF; Number of Outputs: 1; DatasheetVersion: Rev. D; PackageVersion: Rev. A, 08/2010; PackageReference: TS8-8; PackageDescription: 8-Pin Plastic TSOT-23, Body 2.9 x 1.63 mm, Pitch 0.65 mm; Supplier 1: Farnell; Supplier Part Number 1: 2308206; Supplier 2: Newark; Supplier Part Number 2: 78T4005; RoHS: TRUE; Mounting Technology: Surface Mount; Code_JEDEC: MO-193; ComponentLink1Description: Manufacturer URL; ComponentLink1URL: http://www.linear.com/; ComponentLink2Description: Datasheet; ComponentLink2URL: http://cds.linear.com/docs/en/datasheet/3470fd.pdf; ComponentLink3Description: Package Specification; ComponentLink3URL: http://cds.linear.com/docs/en/packaging/SOT_8_05-08-1637.pdf
footprint LT-TS8-8-TSOT-23_V (SOT23, 8-Leads, Body 2.9x1.75mm, Pitch 0.65mm)
pins: 1 ~{SHDN} (in) "The S\H\D\N\ pin is used to put the LT3470 in shutdown mode. Tie to ground to shut down the LT3470A. Apply 2V or more for normal operation. If the shutdown feature is not used, tie this pin to the VIN pin.", 2 NC "This pin can be left floating, connected to VIN, or tied to GND.", 3 VIN (power) "The VIN pin supplies current to the LT3470’s internal regulator and to the internal power switch. This pin must be locally bypassed.", 4 GND (power) "Tie the GND pin to a local ground plane below the LT3470A and the circuit components. Return the feedback divider to this pin.", 5 SW (power) "The SW pin is the output of the internal power switch. Connect this pin to the inductor, catch diode and boost capacitor.", 6 BOOST "The BOOST pin is used to provide a drive voltage, which is higher than the input voltage, to the internal bipolar NPN power switch.", 7 BIAS (power) "The BIAS pin connects to the internal boost Schottky diode and to the internal regulator. Tie to VOUT when VOUT > 2.5V or to VIN otherwise. When VBIAS > 3V the BIAS pin will supply current to the internal regulator.", 8 FB (in) "The LT3470 regulates its feedback pin to 1.25V. Connect the feedback resistor divider tap to this pin. Set the output voltage according to VOUT = 1.25V (1 + R1/R2) or R1 = R2 (VOUT/1.25 - 1)."

## LT3470ETS8#TR
designator U?
Micropower Buck Regulator with Integrated Boost and Catch Diode, 8-pin SOT23 (TS8-8), -40 to 85 degC, Tape and Reel; Manufacturer: Linear Technology; PartNumber: LT3470ETS8#TR; Number of Outputs: 1; DatasheetVersion: Rev. D; PackageVersion: Rev. A, 08/2010; PackageReference: TS8-8; PackageDescription: 8-Pin Plastic TSOT-23, Body 2.9 x 1.63 mm, Pitch 0.65 mm; Packing: Tape and Reel; RoHS: FALSE; Mounting Technology: Surface Mount; Code_JEDEC: MO-193; ComponentLink1Description: Manufacturer URL; ComponentLink1URL: http://www.linear.com/; ComponentLink2Description: Datasheet; ComponentLink2URL: http://cds.linear.com/docs/en/datasheet/3470fd.pdf; ComponentLink3Description: Package Specification; ComponentLink3URL: http://cds.linear.com/docs/en/packaging/SOT_8_05-08-1637.pdf
footprint LT-TS8-8-TSOT-23_V (SOT23, 8-Leads, Body 2.9x1.75mm, Pitch 0.65mm)
pins: 1 ~{SHDN} (in) "The S\H\D\N\ pin is used to put the LT3470 in shutdown mode. Tie to ground to shut down the LT3470A. Apply 2V or more for normal operation. If the shutdown feature is not used, tie this pin to the VIN pin.", 2 NC "This pin can be left floating, connected to VIN, or tied to GND.", 3 VIN (power) "The VIN pin supplies current to the LT3470’s internal regulator and to the internal power switch. This pin must be locally bypassed.", 4 GND (power) "Tie the GND pin to a local ground plane below the LT3470A and the circuit components. Return the feedback divider to this pin.", 5 SW (power) "The SW pin is the output of the internal power switch. Connect this pin to the inductor, catch diode and boost capacitor.", 6 BOOST "The BOOST pin is used to provide a drive voltage, which is higher than the input voltage, to the internal bipolar NPN power switch.", 7 BIAS (power) "The BIAS pin connects to the internal boost Schottky diode and to the internal regulator. Tie to VOUT when VOUT > 2.5V or to VIN otherwise. When VBIAS > 3V the BIAS pin will supply current to the internal regulator.", 8 FB (in) "The LT3470 regulates its feedback pin to 1.25V. Connect the feedback resistor divider tap to this pin. Set the output voltage according to VOUT = 1.25V (1 + R1/R2) or R1 = R2 (VOUT/1.25 - 1)."

## LT3470ETS8#TRM
designator U?
Micropower Buck Regulator with Integrated Boost and Catch Diode, 8-pin SOT23 (TS8-8), -40 to 85 degC, Mini Tape and Reel; Manufacturer: Linear Technology; PartNumber: LT3470ETS8#TRM; Number of Outputs: 1; DatasheetVersion: Rev. D; PackageVersion: Rev. A, 08/2010; PackageReference: TS8-8; PackageDescription: 8-Pin Plastic TSOT-23, Body 2.9 x 1.63 mm, Pitch 0.65 mm; Packing: Mini Tape and Reel; RoHS: FALSE; Mounting Technology: Surface Mount; Code_JEDEC: MO-193; ComponentLink1Description: Manufacturer URL; ComponentLink1URL: http://www.linear.com/; ComponentLink2Description: Datasheet; ComponentLink2URL: http://cds.linear.com/docs/en/datasheet/3470fd.pdf; ComponentLink3Description: Package Specification; ComponentLink3URL: http://cds.linear.com/docs/en/packaging/SOT_8_05-08-1637.pdf
footprint LT-TS8-8-TSOT-23_V (SOT23, 8-Leads, Body 2.9x1.75mm, Pitch 0.65mm)
pins: 1 ~{SHDN} (in) "The S\H\D\N\ pin is used to put the LT3470 in shutdown mode. Tie to ground to shut down the LT3470A. Apply 2V or more for normal operation. If the shutdown feature is not used, tie this pin to the VIN pin.", 2 NC "This pin can be left floating, connected to VIN, or tied to GND.", 3 VIN (power) "The VIN pin supplies current to the LT3470’s internal regulator and to the internal power switch. This pin must be locally bypassed.", 4 GND (power) "Tie the GND pin to a local ground plane below the LT3470A and the circuit components. Return the feedback divider to this pin.", 5 SW (power) "The SW pin is the output of the internal power switch. Connect this pin to the inductor, catch diode and boost capacitor.", 6 BOOST "The BOOST pin is used to provide a drive voltage, which is higher than the input voltage, to the internal bipolar NPN power switch.", 7 BIAS (power) "The BIAS pin connects to the internal boost Schottky diode and to the internal regulator. Tie to VOUT when VOUT > 2.5V or to VIN otherwise. When VBIAS > 3V the BIAS pin will supply current to the internal regulator.", 8 FB (in) "The LT3470 regulates its feedback pin to 1.25V. Connect the feedback resistor divider tap to this pin. Set the output voltage according to VOUT = 1.25V (1 + R1/R2) or R1 = R2 (VOUT/1.25 - 1)."

## LT3470ETS8#TRMPBF
designator U?
Micropower Buck Regulator with Integrated Boost and Catch Diode, 8-pin SOT23 (TS8-8), -40 to 85 degC, Pb-Free, Mini Tape and Reel; Manufacturer: Linear Technology; PartNumber: LT3470ETS8#TRMPBF; Number of Outputs: 1; DatasheetVersion: Rev. D; PackageVersion: Rev. A, 08/2010; PackageReference: TS8-8; PackageDescription: 8-Pin Plastic TSOT-23, Body 2.9 x 1.63 mm, Pitch 0.65 mm; Supplier 1: Digi-Key; Supplier Part Number 1: LT3470ETS8#TRMPBFTR-ND; Supplier 2: Digi-Key; Supplier Part Number 2: LT3470ETS8#TRMPBFCT-ND; Supplier 3: Digi-Key; Supplier Part Number 3: LT3470ETS8#TRMPBFDKR-ND; Supplier 4: Farnell; Supplier Part Number 4: 1663831; Supplier 5: Farnell; Supplier Part Number 5: 1663831RL; Supplier 6: Newark; Supplier Part Number 6: 59M8325; Supplier 7: Newark; Supplier Part Number 7: 57M8255; Packing: Mini Tape and Reel; RoHS: TRUE; Mounting Technology: Surface Mount; Code_JEDEC: MO-193; ComponentLink1Description: Manufacturer URL; ComponentLink1URL: http://www.linear.com/; ComponentLink2Description: Datasheet; ComponentLink2URL: http://cds.linear.com/docs/en/datasheet/3470fd.pdf; ComponentLink3Description: Package Specification; ComponentLink3URL: http://cds.linear.com/docs/en/packaging/SOT_8_05-08-1637.pdf
footprint LT-TS8-8-TSOT-23_V (SOT23, 8-Leads, Body 2.9x1.75mm, Pitch 0.65mm)
pins: 1 ~{SHDN} (in) "The S\H\D\N\ pin is used to put the LT3470 in shutdown mode. Tie to ground to shut down the LT3470A. Apply 2V or more for normal operation. If the shutdown feature is not used, tie this pin to the VIN pin.", 2 NC "This pin can be left floating, connected to VIN, or tied to GND.", 3 VIN (power) "The VIN pin supplies current to the LT3470’s internal regulator and to the internal power switch. This pin must be locally bypassed.", 4 GND (power) "Tie the GND pin to a local ground plane below the LT3470A and the circuit components. Return the feedback divider to this pin.", 5 SW (power) "The SW pin is the output of the internal power switch. Connect this pin to the inductor, catch diode and boost capacitor.", 6 BOOST "The BOOST pin is used to provide a drive voltage, which is higher than the input voltage, to the internal bipolar NPN power switch.", 7 BIAS (power) "The BIAS pin connects to the internal boost Schottky diode and to the internal regulator. Tie to VOUT when VOUT > 2.5V or to VIN otherwise. When VBIAS > 3V the BIAS pin will supply current to the internal regulator.", 8 FB (in) "The LT3470 regulates its feedback pin to 1.25V. Connect the feedback resistor divider tap to this pin. Set the output voltage according to VOUT = 1.25V (1 + R1/R2) or R1 = R2 (VOUT/1.25 - 1)."

## LT3470ETS8#TRPBF
designator U?
Micropower Buck Regulator with Integrated Boost and Catch Diode, 8-pin SOT23 (TS8-8), -40 to 85 degC, Pb-Free, Tape and Reel; Manufacturer: Linear Technology; PartNumber: LT3470ETS8#TRPBF; Number of Outputs: 1; DatasheetVersion: Rev. D; PackageVersion: Rev. A, 08/2010; PackageReference: TS8-8; PackageDescription: 8-Pin Plastic TSOT-23, Body 2.9 x 1.63 mm, Pitch 0.65 mm; Supplier 1: Digi-Key; Supplier Part Number 1: LT3470ETS8#TRPBF-ND; Supplier 2: Newark; Supplier Part Number 2: 57M8256; Packing: Tape and Reel; RoHS: TRUE; Mounting Technology: Surface Mount; Code_JEDEC: MO-193; ComponentLink1Description: Manufacturer URL; ComponentLink1URL: http://www.linear.com/; ComponentLink2Description: Datasheet; ComponentLink2URL: http://cds.linear.com/docs/en/datasheet/3470fd.pdf; ComponentLink3Description: Package Specification; ComponentLink3URL: http://cds.linear.com/docs/en/packaging/SOT_8_05-08-1637.pdf
footprint LT-TS8-8-TSOT-23_V (SOT23, 8-Leads, Body 2.9x1.75mm, Pitch 0.65mm)
pins: 1 ~{SHDN} (in) "The S\H\D\N\ pin is used to put the LT3470 in shutdown mode. Tie to ground to shut down the LT3470A. Apply 2V or more for normal operation. If the shutdown feature is not used, tie this pin to the VIN pin.", 2 NC "This pin can be left floating, connected to VIN, or tied to GND.", 3 VIN (power) "The VIN pin supplies current to the LT3470’s internal regulator and to the internal power switch. This pin must be locally bypassed.", 4 GND (power) "Tie the GND pin to a local ground plane below the LT3470A and the circuit components. Return the feedback divider to this pin.", 5 SW (power) "The SW pin is the output of the internal power switch. Connect this pin to the inductor, catch diode and boost capacitor.", 6 BOOST "The BOOST pin is used to provide a drive voltage, which is higher than the input voltage, to the internal bipolar NPN power switch.", 7 BIAS (power) "The BIAS pin connects to the internal boost Schottky diode and to the internal regulator. Tie to VOUT when VOUT > 2.5V or to VIN otherwise. When VBIAS > 3V the BIAS pin will supply current to the internal regulator.", 8 FB (in) "The LT3470 regulates its feedback pin to 1.25V. Connect the feedback resistor divider tap to this pin. Set the output voltage according to VOUT = 1.25V (1 + R1/R2) or R1 = R2 (VOUT/1.25 - 1)."

## LT3470HDDB#PBF
designator U?
Micropower Buck Regulator with Integrated Boost and Catch Diode, 8-pin SON (DDB-8), -40 to 150 degC, Pb-Free; Manufacturer: Linear Technology; PartNumber: LT3470HDDB#PBF; Number of Outputs: 1; DatasheetVersion: Rev. D; PackageVersion: Rev. B, 06/2010; PackageReference: DDB-8; PackageDescription: 8-Pin Plastic DFN, Body 3 x 2 mm, Pitch 0.5 mm; RoHS: TRUE; Mounting Technology: Surface Mount; Code_JEDEC: MO-229; ComponentLink1Description: Manufacturer URL; ComponentLink1URL: http://www.linear.com/; ComponentLink2Description: Datasheet; ComponentLink2URL: http://cds.linear.com/docs/en/datasheet/3470fd.pdf; ComponentLink3Description: Package Specification; ComponentLink3URL: http://cds.linear.com/docs/en/packaging/DFN_8_05-08-1702.pdf
footprint LT-DDB-8_V (SON, 8-Leads, Body 3x2mm, Pitch 0.5mm, Thermal Pad 2.2x0.61mm)
pins: 1 FB (in) "The LT3470X regulates its feedback pin to 1.25V. Connect the feedback resistor divider tap to this pin. Set the output voltage according to VOUT = 1.25V (1 + R1/R2) or R1 = R2 (VOUT/1.25 - 1).", 2 BIAS (power) "The BIAS pin connects to the internal boost Schottky diode and to the internal regulator. Tie to VOUT when VOUT > 2.5V or to VIN otherwise. When VBIAS > 3V the BIAS pin will supply current to the internal regulator.", 3 BOOST "The BOOST pin is used to provide a drive voltage, which is higher than the input voltage, to the internal bipolar NPN power switch.", 4 SW (power) "The SW pin is the output of the internal power switch. Connect this pin to the inductor, catch diode and boost capacitor.", 5 GND (power) "Tie the GND pin to a local ground plane below the LT3470X and the circuit components. Return the feedback divider to this pin.", 6 VIN (power) "The VIN pin supplies current to the LT3470X’s internal regulator and to the internal power switch. This pin must be locally bypassed.", 7 NC "This pin can be left floating, connected to VIN, or tied to GND.", 8 ~{SHDN} (in) "The S\H\D\N\ pin is used to put the LT3470X in shutdown mode. Tie to ground to shut down the LT3470A. Apply 2V or more for normal operation. If the shutdown feature is not used, tie this pin to the VIN pin.", 9 EP (power) "Ground. Must be soldered to PCB."

## LT3470HDDB#TRMPBF
designator U?
Micropower Buck Regulator with Integrated Boost and Catch Diode, 8-pin SON (DDB-8), -40 to 150 degC, Pb-Free, Mini Tape and Reel; Manufacturer: Linear Technology; PartNumber: LT3470HDDB#TRMPBF; Number of Outputs: 1; DatasheetVersion: Rev. D; PackageVersion: Rev. B, 06/2010; PackageReference: DDB-8; PackageDescription: 8-Pin Plastic DFN, Body 3 x 2 mm, Pitch 0.5 mm; Supplier 1: Digi-Key; Supplier Part Number 1: LT3470HDDB#TRMPBF-ND; Supplier 2: Newark; Supplier Part Number 2: 57M8257; Packing: Mini Tape and Reel; RoHS: TRUE; Mounting Technology: Surface Mount; Code_JEDEC: MO-229; ComponentLink1Description: Manufacturer URL; ComponentLink1URL: http://www.linear.com/; ComponentLink2Description: Datasheet; ComponentLink2URL: http://cds.linear.com/docs/en/datasheet/3470fd.pdf; ComponentLink3Description: Package Specification; ComponentLink3URL: http://cds.linear.com/docs/en/packaging/DFN_8_05-08-1702.pdf
footprint LT-DDB-8_V (SON, 8-Leads, Body 3x2mm, Pitch 0.5mm, Thermal Pad 2.2x0.61mm)
pins: 1 FB (in) "The LT3470X regulates its feedback pin to 1.25V. Connect the feedback resistor divider tap to this pin. Set the output voltage according to VOUT = 1.25V (1 + R1/R2) or R1 = R2 (VOUT/1.25 - 1).", 2 BIAS (power) "The BIAS pin connects to the internal boost Schottky diode and to the internal regulator. Tie to VOUT when VOUT > 2.5V or to VIN otherwise. When VBIAS > 3V the BIAS pin will supply current to the internal regulator.", 3 BOOST "The BOOST pin is used to provide a drive voltage, which is higher than the input voltage, to the internal bipolar NPN power switch.", 4 SW (power) "The SW pin is the output of the internal power switch. Connect this pin to the inductor, catch diode and boost capacitor.", 5 GND (power) "Tie the GND pin to a local ground plane below the LT3470X and the circuit components. Return the feedback divider to this pin.", 6 VIN (power) "The VIN pin supplies current to the LT3470X’s internal regulator and to the internal power switch. This pin must be locally bypassed.", 7 NC "This pin can be left floating, connected to VIN, or tied to GND.", 8 ~{SHDN} (in) "The S\H\D\N\ pin is used to put the LT3470X in shutdown mode. Tie to ground to shut down the LT3470A. Apply 2V or more for normal operation. If the shutdown feature is not used, tie this pin to the VIN pin.", 9 EP (power) "Ground. Must be soldered to PCB."

## LT3470HDDB#TRPBF
designator U?
Micropower Buck Regulator with Integrated Boost and Catch Diode, 8-pin SON (DDB-8), -40 to 150 degC, Pb-Free, Tape and Reel; Manufacturer: Linear Technology; PartNumber: LT3470HDDB#TRPBF; Number of Outputs: 1; DatasheetVersion: Rev. D; PackageVersion: Rev. B, 06/2010; PackageReference: DDB-8; PackageDescription: 8-Pin Plastic DFN, Body 3 x 2 mm, Pitch 0.5 mm; Supplier 1: Digi-Key; Supplier Part Number 1: LT3470HDDB#TRPBF-ND; Supplier 2: Newark; Supplier Part Number 2: 57M8258; Packing: Tape and Reel; RoHS: TRUE; Mounting Technology: Surface Mount; Code_JEDEC: MO-229; ComponentLink1Description: Manufacturer URL; ComponentLink1URL: http://www.linear.com/; ComponentLink2Description: Datasheet; ComponentLink2URL: http://cds.linear.com/docs/en/datasheet/3470fd.pdf; ComponentLink3Description: Package Specification; ComponentLink3URL: http://cds.linear.com/docs/en/packaging/DFN_8_05-08-1702.pdf
footprint LT-DDB-8_V (SON, 8-Leads, Body 3x2mm, Pitch 0.5mm, Thermal Pad 2.2x0.61mm)
pins: 1 FB (in) "The LT3470X regulates its feedback pin to 1.25V. Connect the feedback resistor divider tap to this pin. Set the output voltage according to VOUT = 1.25V (1 + R1/R2) or R1 = R2 (VOUT/1.25 - 1).", 2 BIAS (power) "The BIAS pin connects to the internal boost Schottky diode and to the internal regulator. Tie to VOUT when VOUT > 2.5V or to VIN otherwise. When VBIAS > 3V the BIAS pin will supply current to the internal regulator.", 3 BOOST "The BOOST pin is used to provide a drive voltage, which is higher than the input voltage, to the internal bipolar NPN power switch.", 4 SW (power) "The SW pin is the output of the internal power switch. Connect this pin to the inductor, catch diode and boost capacitor.", 5 GND (power) "Tie the GND pin to a local ground plane below the LT3470X and the circuit components. Return the feedback divider to this pin.", 6 VIN (power) "The VIN pin supplies current to the LT3470X’s internal regulator and to the internal power switch. This pin must be locally bypassed.", 7 NC "This pin can be left floating, connected to VIN, or tied to GND.", 8 ~{SHDN} (in) "The S\H\D\N\ pin is used to put the LT3470X in shutdown mode. Tie to ground to shut down the LT3470A. Apply 2V or more for normal operation. If the shutdown feature is not used, tie this pin to the VIN pin.", 9 EP (power) "Ground. Must be soldered to PCB."